# Altium footprint library LFPAK.PcbLib: 1 footprints
Each footprint in its own frame and in the unit in brackets; x right, y up, seen from the top. Pads: shape width x height; smd on the part's side, far side on the other; paste and mask are expansions set on the pad; w line width, h text height; cw(c..) or ccw(c..) is an arc to the next point about the centre after c.
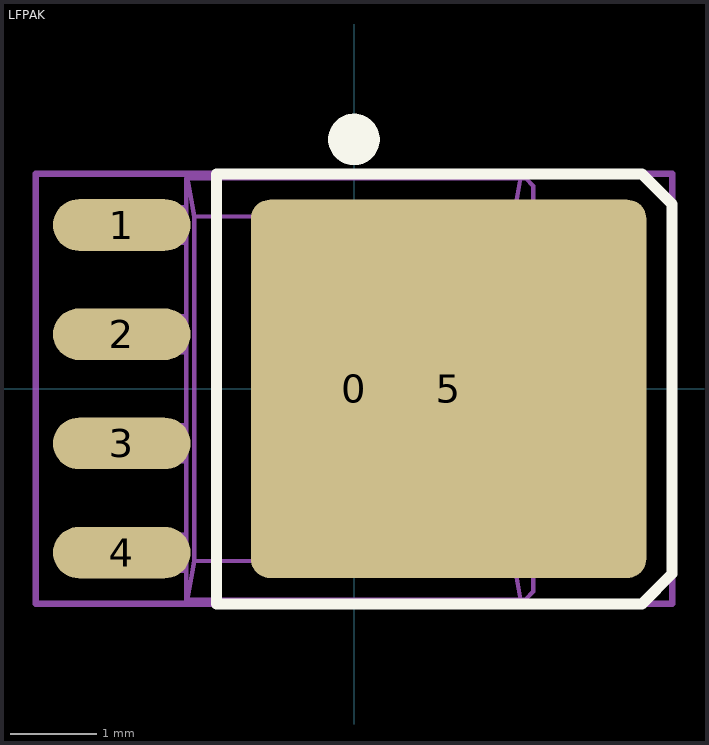
[diagram p0: the footprint, top view; thin cyan lines are the x and y axes]

## LFPAK [mm] "Renesas LFPAK, a variant of SOIC-8; IPC Medium Density"
height 1.1
pads (6):
  round 1 on Mech15: 0(0,0)
  oval 1.6x0.6 smd: 1(-2.7,1.905) 2(-2.7,0.635) 3(-2.7,-0.635) 4(-2.7,-1.905)
  rrect10% 4.6x4.4 smd paste-0.8: 5(1.1,0)
Top Overlay:
  circle w0.3: c0,2.9 r0.15
  lines w0.127: -1.6,-2.5 -1.6,2.5 3.35,2.5 3.7,2.15 3.7,-2.15 3.35,-2.5 -1.6,-2.5
Mechanical 13:
  circle w0.05: c0,1.5 r0.338
  lines w0.05: -2.631,-2.115 -2.631,-1.695 ; -2.631,-0.845 -2.631,-0.425 ; -2.631,0.425 -2.631,0.845 ; -2.631,1.695 -2.631,2.115 ; -2.543,-2.115 -2.543,-1.695 ; -2.543,-0.845 -2.543,-0.425 ; -2.543,0.425 -2.543,0.845 ; -2.543,1.695 -2.543,2.115 ; -2.506,-2.115 -2.506,-1.695 ; -2.506,-0.845 -2.506,-0.425 ; -2.506,0.425 -2.506,0.845 ; -2.506,1.695 -2.506,2.115 ; -2.217,-2.115 -2.217,-1.695 ; -2.217,-0.845 -2.217,-0.425 ; -2.217,0.425 -2.217,0.845 ; -2.217,1.695 -2.217,2.115 ; -1.95,-2.115 -3,-2.115 -3,-1.695 -1.95,-1.695 ; -1.95,-0.845 -3,-0.845 -3,-0.425 -1.95,-0.425 ; -1.95,0.425 -3,0.425 -3,0.845 -1.95,0.845 ; -1.95,1.695 -3,1.695 -3,2.115 -1.95,2.115 ; -1.937,-2.45 -1.858,-2.003 ; -1.937,2.45 -1.858,2.003 ; 1.937,-2.45 1.858,-2.003 ; 1.937,2.45 1.858,2.003 ; 2.085,-1.4 2.085,-2.358 1.993,-2.45 -1.95,-2.45 -1.95,2.45 1.993,2.45 2.085,2.358 2.085,1.4 ; 2.085,-0.6 2.085,0.6 ; -1.858,-2.003 -1.858,2.003 ; -1.858,-2.003 1.858,-2.003 ; -1.858,2.003 1.858,2.003 ; 1.858,-2.003 1.858,2.003 ; 2.028,-1.4 2.3,-1.4 2.3,-2.1 2.55,-2.1 3,-1.65 3,1.65 2.55,2.1 2.3,2.1 2.3,1.4 2.028,1.4 2.028,0.6 2.1,0.6 2.1,-0.6 2.028,-0.6 2.028,-1.4
Mechanical 15:
  lines w0.076: -3.7,-2.5 -3.7,2.5 3.7,2.5 3.7,-2.5 -3.7,-2.5
3D body: height 1.1, standoff 0, extent -3,-2.45 3,2.45